# Altium footprint library ActiveWave MasterLib.PcbLib: 41 footprints (part 1 of 3)
Each footprint in its own frame and in the unit in brackets; x right, y up, seen from the top. Pads: shape width x height; smd on the part's side, far side on the other; paste and mask are expansions set on the pad; w line width, h text height; cw(c..) or ccw(c..) is an arc to the next point about the centre after c.
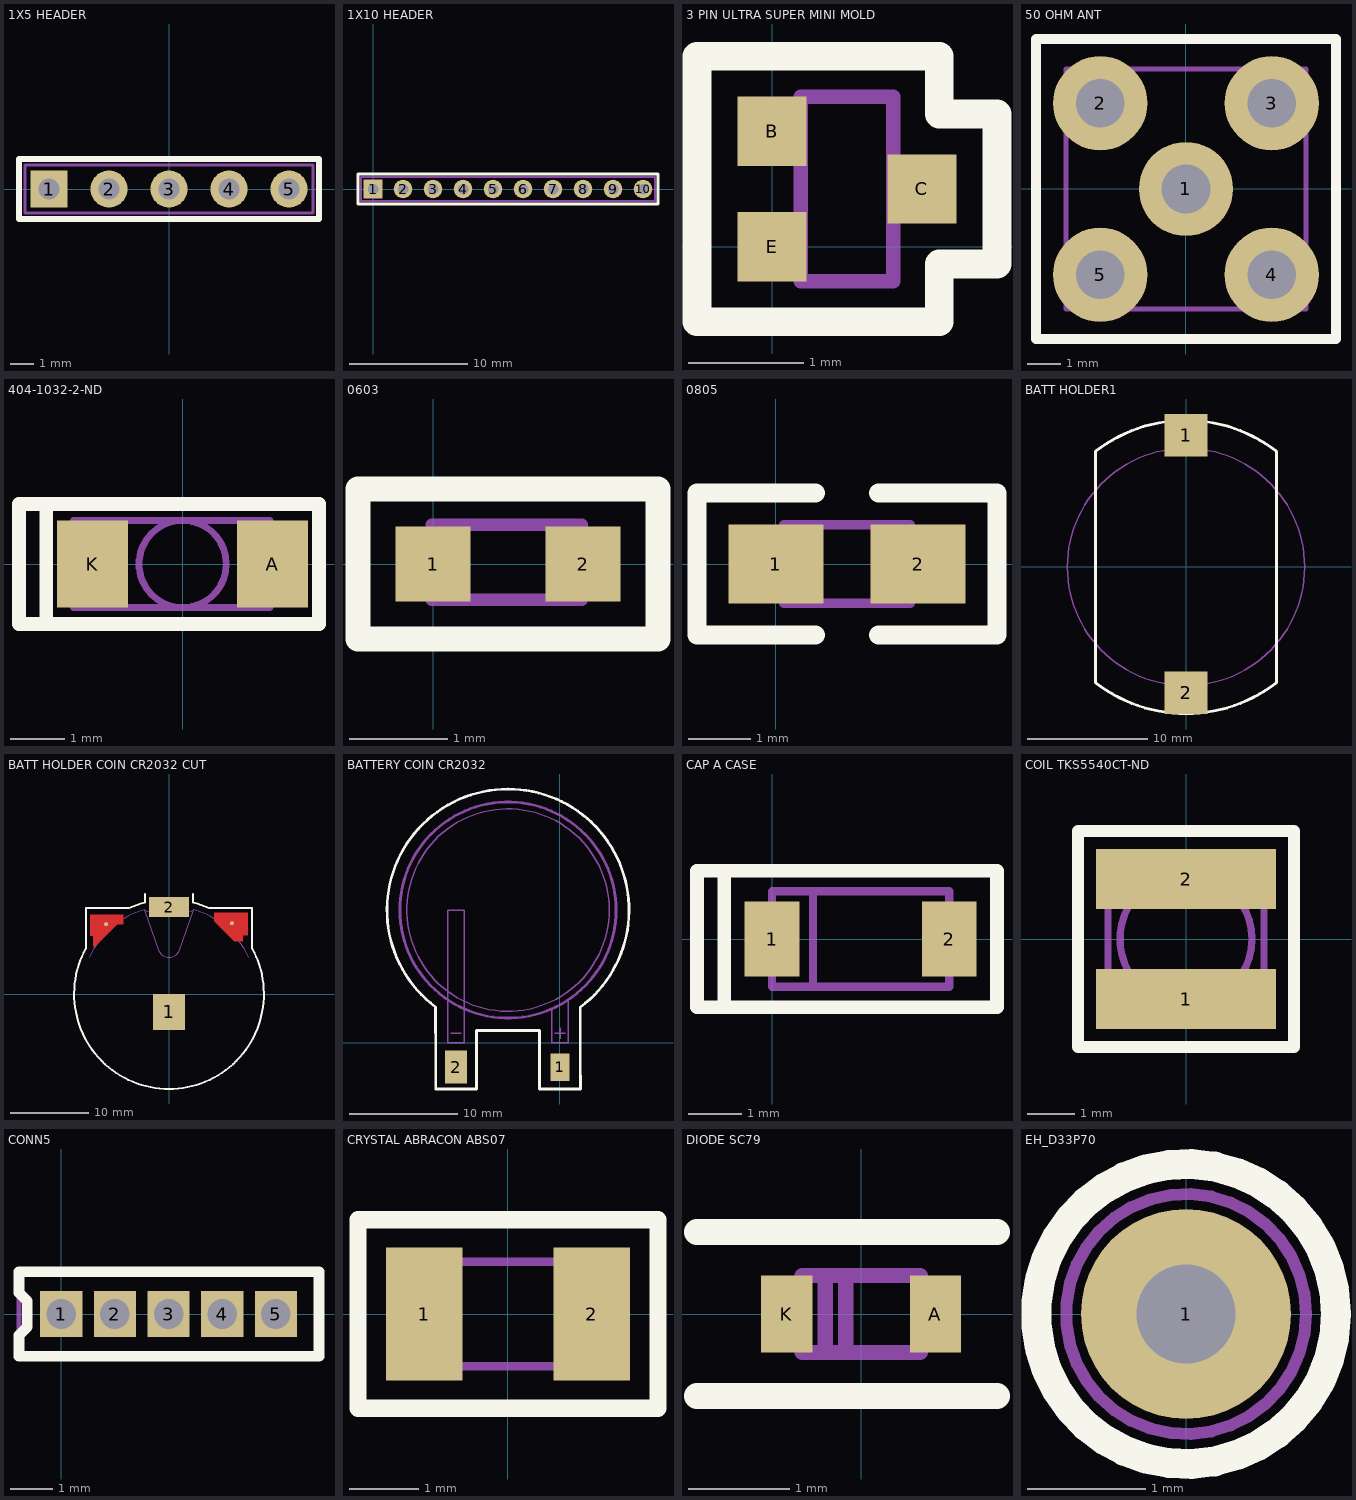
[diagram p0: the footprints below, top view; thin cyan lines are the x and y axes]

## 1X5 HEADER [mil]
pads (5):
  rect 62x62 hole 35: 1(-200,0)
  round 62 hole 35: 2(-100,0) 3(0,0) 4(100,0) 5(200,0)
Top Overlay:
  lines w9.84: -250,-50 -250,50 250,50 250,-50 -250,-50
Mechanical 1:
  lines w4.92: -240,-40 -240,40 240,40 240,-40 -240,-40
Mechanical 8:
  text ".Designator" at -100,60 h19.68

## 1X10 HEADER [mil]
pads (10):
  rect 62x62 hole 35: 1(0,0)
  round 62 hole 35: 2(100,0) 3(200,0) 4(300,0) 5(400,0) 6(500,0) 7(600,0) 8(700,0) 9(800,0) 10(900,0)
Top Overlay:
  lines w10: -50,-50 950,-50 950,50 -50,50 -50,0 -50,-50
Mechanical 1:
  lines w6: -40,-40 940,-40 940,40 -40,40 -40,-40
Mechanical 8:
  text ".Designator" at 385,55 h19.68

## 3 PIN ULTRA SUPER MINI MOLD [mm]
pads (3):
  rect 0.6x0.6 smd: B(0,1) C(1.3,0.5) E(0,0)
Top Overlay:
  lines w0.25: -0.65,-0.65 -0.65,1.6 -0.65,1.65 1.45,1.65 1.45,1.15 1.95,1.15 1.95,-0.15 1.45,-0.15 1.45,-0.65 -0.65,-0.65
Mechanical 1:
  lines w0.125: 0.25,-0.15 -0.15,-0.15 -0.15,0.15 0.25,0.15 ; 0.25,0.85 -0.15,0.85 -0.15,1.15 0.25,1.15 ; 1.05,0.35 1.45,0.35 1.45,0.65 1.05,0.65 ; 0.25,-0.3 1.05,-0.3 1.05,1.3 0.25,1.3 0.25,-0.3
Mechanical 8:
  text ".Designator" at -0.745,2.058 h0.5

## 50 OHM ANT [mil]
pads (5):
  round 110 hole 57: 1(0,0) 2(-100,100) 3(100,100) 4(100,-100) 5(-100,-100)
Top Overlay:
  lines w12: -175,-175 -175,175 175,175 175,0 175,-175 -175,-175
Mechanical 1:
  lines w6: -140,-140 -140,140 140,140 140,0 140,-140 -140,-140
Mechanical 8:
  text ".Designator" at -70,-5 h19.68

## 404-1032-2-ND [mm]
pads (2):
  rect 1.3x1.6 smd: A(1.65,0) K(-1.65,0)
Top Overlay:
  lines w0.25: -2.5,-1.1 -2.5,1.1 ; -2.5,-1.1 2.5,-1.1 2.5,1.1 -2.5,1.1 ; -2.5,-1.1 -3,-1.1 -3,1.1 -2.5,1.1
Mechanical 1:
  circle w0.125: c0,0 r0.8
  lines w0.125: 0,0.8 1.6,0.8 ; -1.6,-0.8 -2,-0.8 -2,0.8 -1.6,0.8 ; -1.6,-0.8 -1.6,0.8 ; -1.6,-0.8 1.6,-0.8 1.6,0.8 ; -1.6,0.8 1.6,0.8
Mechanical 8:
  text ".Designator" at -1.905,1.143 h0.5

## 0603 [mil]
pads (2):
  rect 30x30 smd: 1(0,0) 2(60,0)
Top Overlay:
  lines w9.84: -30,-30 90,-30 90,30 -30,30 -30,0 -30,-30
Mechanical 1:
  lines w4.92: -0.53,-14.25 -0.53,15.75 59.47,15.75 59.47,-14.25 -0.53,-14.25
Mechanical 8:
  text ".Designator" at -29.33,46.02 h19.68

## 0805 [mil]
pads (2):
  rect 60x50 smd: 1(0,0) 2(90,0)
Top Overlay:
  lines w12: 25,-45 -50,-45 -50,45 25,45 ; 65,-45 140,-45 140,45 65,45
Mechanical 1:
  lines w6: 5,-25 5,25 85,25 85,-25 5,-25
Mechanical 8:
  text ".Designator" at -25,-10 h19.68

## BATT HOLDER1 [mm]
pads (2):
  rect 3.55x3.55 smd: 1(0,11) 2(0,-10.5)
Top Overlay:
  lines w0.25: -7.548,-9.648 ccw(c0,0) 0,-12.25 ccw(c0,0) 7.548,-9.648 7.548,9.648 ccw(c0,0) 0,12.25 ccw(c0,0) -7.548,9.648 -7.548,-9.648
Mechanical 1:
  circle w0.125: c-0.001,0 r9.906
Mechanical 8:
  text ".Designator" at -3.412,2.566 h0.5

## BATT HOLDER COIN CR2032 CUT [mil]
pads (4):
  rect 160x180 smd: 1(0,-88.88)
  round 20 smd: 2(-315,350) 2(315,355)
  rect 200x100 smd: 2(0,435)
Top Layer:
  region: 395,407 395,294 368,294 368,265 327,265 226,366 226,407
  region: -394,397 -229,397 -229,350 -260,350 -370,240 -378,240 -378,291 -394,291
Top Overlay:
  lines w9.84: -416.04,229.2 -416.04,430 ; -416.04,430.69 -200.32,430.69 ; -120.51,459.46 -120.51,502.5 ; 120.51,459.46 120.51,502.5 ; 200.32,430.69 416.04,430.69 ; 416.04,229.2 416.04,430
  lines w10: -416.05,229.2 ccw(c0,0) 0,-475 ccw(c0,0) 416.05,229.2 ; -200.32,430.69 cw(c0,0) -120.51,459.46 ; 120.51,459.46 cw(c0,0) 200.32,430.69
Top Paste:
  region: -394,397 -229,397 -229,350 -260,350 -370,240 -378,240 -378,291 -394,291
  region: 395,407 395,294 368,294 368,265 327,265 226,366 226,407
Top Solder:
  region: -394,397 -229,397 -229,350 -260,350 -370,240 -378,240 -378,291 -394,291
  region: 395,407 395,294 368,294 368,265 327,265 226,366 226,407
Mechanical 1:
  lines w4.92: -400.02,185.01 cw(c0,0) -125.03,422.62 ; -335,285 -365,285 -365,385 -315,385 -265,385 -265,352.5 ; -75,405 -75,457.5 0,457.5 75,457.5 75,405 ; 265,352.5 265,385 315,385 365,385 365,285 335,285 ; 400.02,185.01 ccw(c0,0) 125.03,422.62 ; -125.04,422.62 ccw(c-0.39,711.91) 0,396.91 ccw(c0.39,711.91) 125.03,422.62 ; -125.03,422.62 -50.16,214.91 ccw(c0,242.01) 0,185 ccw(c0,242.01) 50.16,214.91 125.03,422.62
Mechanical 8:
  text ".Designator" at -134.33,86.02 h19.68

## BATTERY COIN CR2032 [mil]
pads (2):
  rect 70x100 smd: 1(0,-89)
  rect 80x120 smd: 2(-380,-89)
Top Overlay:
  lines w9.84: -190,927.31 ccw(c-190,485) -454.82,130.73 -454.62,-65 -454,-169 -305,-169 -305,-65 -305,45 -75,45 -75,-65 -75,-169 75,-169 74.62,-65 74.44,130.23 ccw(c-190,485) -190,927.49
Mechanical 1:
  circle w4.92: c-190,485 r370
  circle w10: c-190,485 r395
  lines w4.92: -400,35 -360,35 ; -30,120 -30,0 ; -20,35 20,35 ; 1,15 1,55 ; 30,155 30,0 ; -30,0 0,0 30,0 ; -30,0 30,0 ; -30,0 30,0 ; -410,0 -410,485 -380,485 -350,485 -350,0 -380,0 -410,0
Mechanical 8:
  text ".Designator" at -255,485 h19.68

## CAP A CASE [mil]
pads (2):
  rect 40x55 smd: 1(0,0) 2(130,0)
Top Overlay:
  lines w10: -35,-50 -55,-50 -55,50 -35,50 ; -35,-50 -35,50 ; -35,-50 165,-50 165,50 100,50 -35,50
Mechanical 1:
  lines w6: 30,-35 30,35 ; 65,35 130,35 ; 130,0 130,-35 ; 130,-35 0,-35 0,35 130,35 ; 130,-35 130,35
Mechanical 8:
  text ".Designator" at -14.33,-8.98 h19.68

## COIL TKS5540CT-ND [mil]
pads (2):
  rect 150x50 smd: 1(0,-50) 2(0,50)
Top Overlay:
  lines w10: -90,-90 -60,-90 90,-90 90,0 90,90 60,90 -90,90 -90,0 -90,-90
Mechanical 1:
  circle w6: c0,0 r55
  lines w6: -65,-65 -65,65 65,65 65,0 65,-65 -65,-65
Mechanical 8:
  text ".Designator" at -74.33,-8.98 h19.68

## CONN5 [mm]
pads (5):
  rect 1x1.1 hole 0.7: 1(0,0) 2(1.27,0) 3(2.54,0) 4(3.81,0) 5(5.08,0)
Top Overlay:
  lines w0.25: -1,-1 -1,-0.5 -0.8,-0.3 -0.8,0.3 -1,0.5 -1,1 6.1,1 6.1,-1 -1,-1
Mechanical 1:
  lines w0.125: -1,-1 6.1,-1 6.1,1 -1,1 -1,-1
Mechanical 8:
  text ".Designator" at -0.999,1.296 h0.5

## CRYSTAL ABRACON ABS07 [mm]
pads (2):
  rect 1.1x1.9 smd: 1(-1.2,0) 2(1.2,0)
Top Overlay:
  lines w0.25: -2.15,-1.35 -2.15,0 -2.15,1.35 0,1.35 2.15,1.35 2.15,0 2.15,-1.35 0,-1.35 -2.15,-1.35
Mechanical 1:
  lines w0.125: -1.6,-0.75 -1.6,0 -1.6,0.75 0,0.75 1.6,0.75 1.6,0 1.6,-0.75 0,-0.75 -1.6,-0.75
Mechanical 8:
  text ".Designator" at -1.651,1.143 h0.5

## DIODE SC79 [mil]
pads (2):
  rect 20x30 smd: A(29,0) K(-29,0)
Top Overlay:
  lines w10: -64,-32 -53,-32 -36,-32 53,-32 ; -64,32 -53,32 36,32 53,32
Mechanical 1:
  lines w6: -31,0 -23,0 ; -6,15 -6,-15 -14,-15 -14,15 -23,15 ; 0,15 -23,15 ; 23,0 31,0 ; -23,15 -23,-15 23,-15 23,15 -23,15
Mechanical 8:
  text ".Designator" at -80,-5 h19.68

## EH_D33P70 [mil]
pads (1):
  round 70 hole 33: 1(0,0)
Top Overlay:
  circle w10: c0,0 r50
Mechanical 1:
  circle w4: c0,0 r40
Mechanical 8:
  text ".Designator" at 0,60 h19.68